# Altium schematic symbol library IP6518C.SchLib: 1 symbol
Pins are listed as number, name and electrical type; pins without a type are passive.

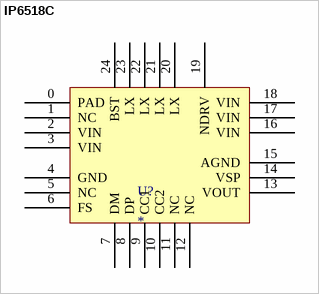
[diagram p0: symbol IP6518C]

## IP6518C
designator U?
footprint QFN24
pins: 0 PAD, 1 NC, 2 VIN, 3 VIN, 4 GND, 5 NC, 6 FS, 7 DM, 8 DP, 9 CC1, 10 CC2, 11 NC, 12 NC, 13 VOUT, 14 VSP, 15 AGND, 16 VIN, 17 VIN, 18 VIN, 19 NDRV, 20 LX, 21 LX, 22 LX, 23 LX, 24 BST